# Altium schematic symbol library Bitcoiner_EB_Project_V1I1.SchLib: 70 symbols (part 2 of 3)
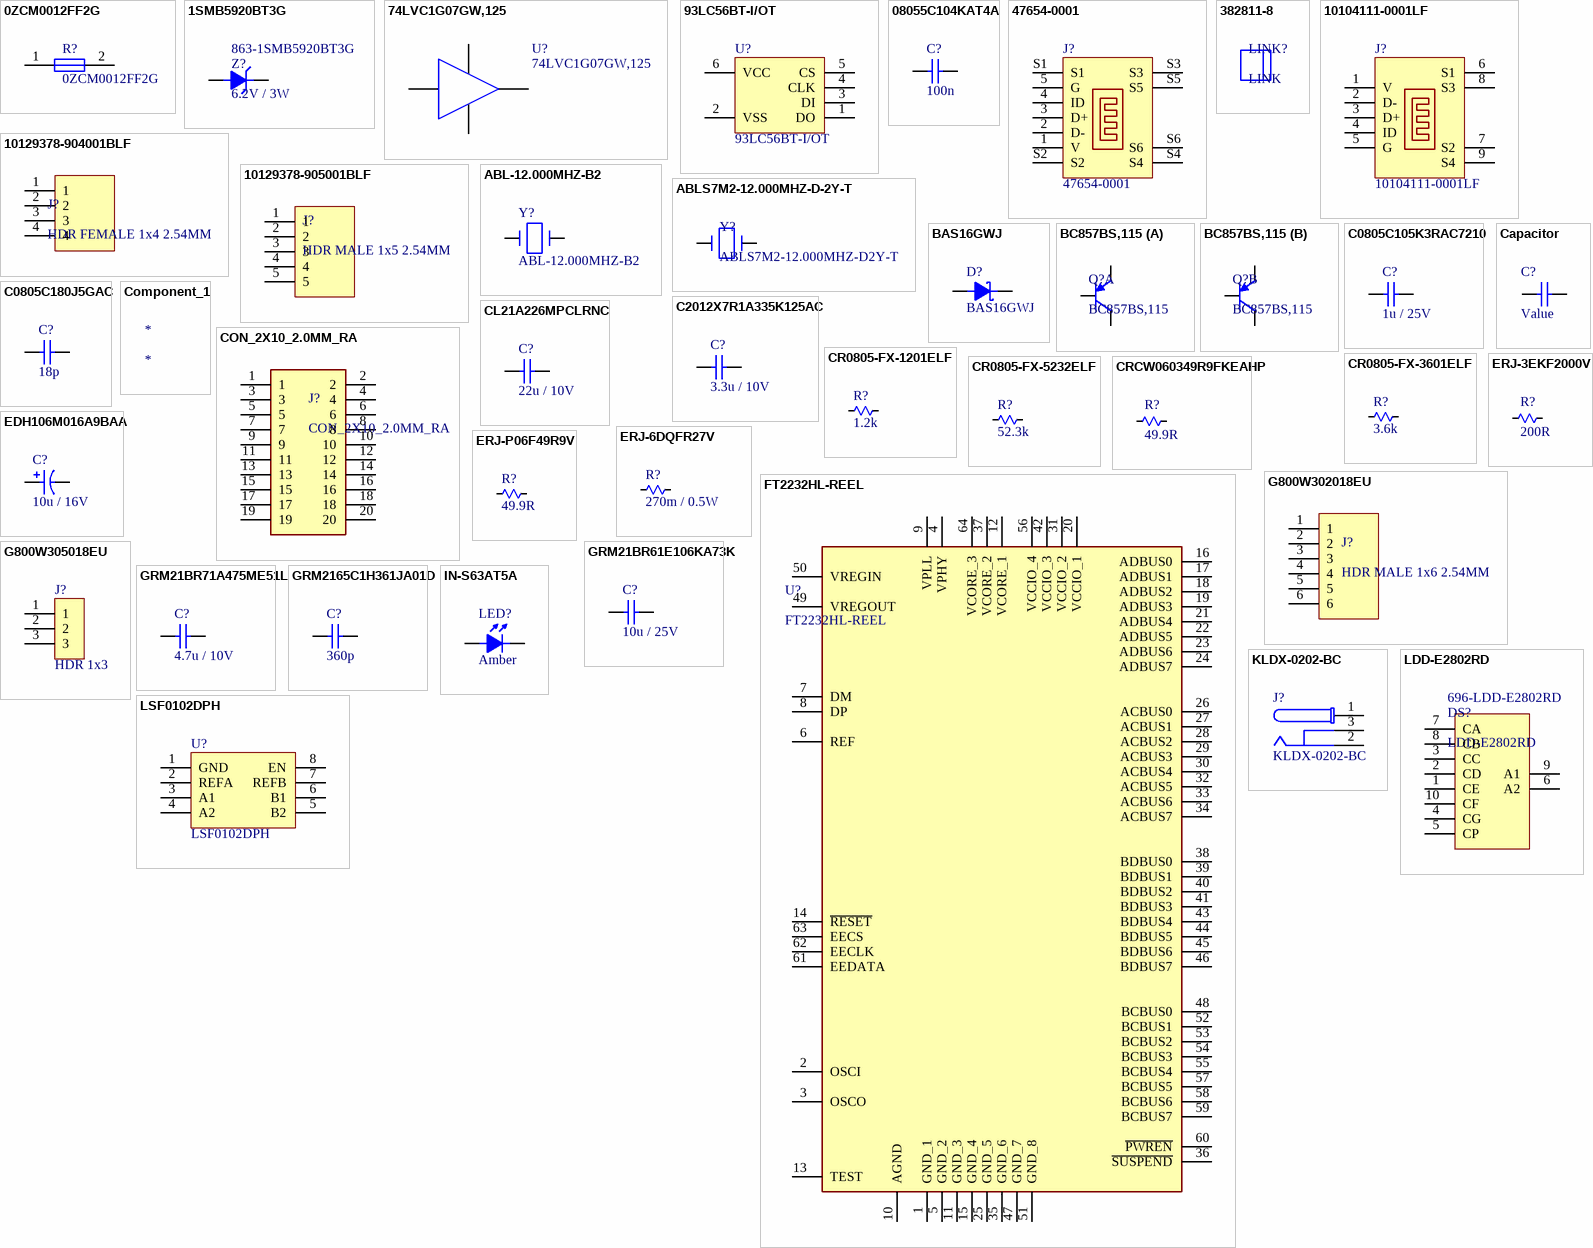
[diagram p2: symbols 0ZCM0012FF2G to LSF0102DPH]

## LDD-E2802RD
designator DS?  Supplier Part Number 1: 696-LDD-E2802RD
Dual Digit 565 nm Green 0.28 inch Common Anode Seven Segment Display; Manufacturer: Lumex; Wavelength: 565nm; Forward Current: 10mA; Forward Voltage: 2.2V; Power Consumption: 105mW; Number of LEDs: 16; Viewing Area (height): 7mm; Supplier 1: Mouser; Manufacturer Part Number: LDD-E2802RD; RoHS: Yes; Category: Uncategorized; Stock 1: 124; Pricing 1: 1=1.27000, 10=0.80000, 50=0.80000, 100=0.64000, 1000=0.44700, 10000=0.40000 (USD); Mount: Through Hole; Number of Pins: 10; Color: Green; Min Operating Temperature: -30°C; Max Operating Temperature: 85°C; Element Configuration: Common Anode; Illumination Color: Green; Packaging: Rail/Tube; Display Type: Segment; Lead Free: Lead Free; RoHS Compliant: No; ComponentLink1URL: https://datasheet.ciiva.com/12093/ldd-e2802rd-106744-12093301.pdf?src-supplier=Mouser; ComponentLink1Description: https://datasheet.ciiva.com/12093/ldd-e2802rd-106744-12093301.pdf?src-supplier=Mouser
footprint LDD-E2802RD
pins: 1 CE, 2 CD, 3 CC, 4 CG, 5 CP, 6 A2, 7 CA, 8 CB, 9 A1, 10 CF

## LSF0102DPH
designator U?
Manufacturer: Nexperia; Supplier 1: Mouser; Manufacturer Part Number: LSF0102DPH; RoHS: No; Stock 1: 2386; Pricing 1: 1=0.58000, 10=0.48100, 50=0.48100, 100=0.36500, 1000=0.24800, 10000=0.20100 (USD); Supplier Part Number 1: 771-LSF0102DPH
footprint SOT505-2
pins: 1 GND, 2 REFA, 3 A1, 4 A2, 5 B2, 6 B1, 7 REFB, 8 EN

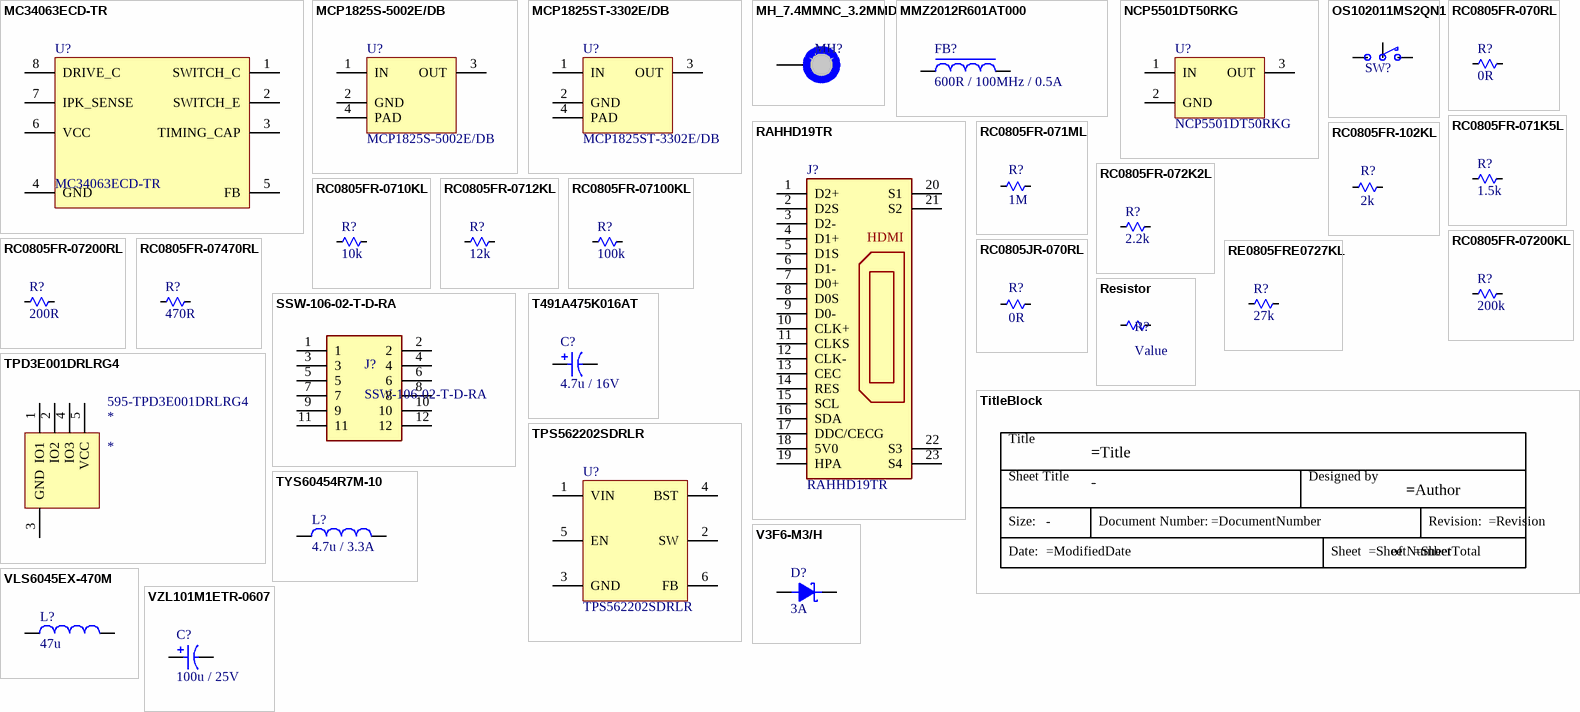
[diagram p1: symbols MC34063ECD-TR to VZL101M1ETR-0607]

## MC34063ECD-TR
designator U?
DC DC Cntrlr Single-OUT Step Up/Step Down 3V to 40V Input 8-Pin SO N T/R; Manufacturer: STMicroelectronics; Number of Outputs: 1; Output Voltage: 1.25V; Output Current: 1.5A; Efficiency: 89%; Max Output Voltage: 38V; Switching Frequency: 100kHz; Synchronous Rectifier: No; Output Type: Adjustable,Fixed; Supplier 1: Mouser; Manufacturer Part Number: MC34063ECD-TR; RoHS: Yes; Category: Voltage Regulators - Switching; Stock 1: 170; Pricing 1: 1=0.64000, 10=0.52900, 50=0.52900, 100=0.43200, 1000=0.27400, 10000=0.24700 (USD); Mount: Surface Mount; Case/Package: SO; Number of Pins: 8; Min Operating Temperature: 0°C; Max Operating Temperature: 70°C; Package Quantity: 2500; Packaging: Tape and Reel; Max Input Voltage: 40V; Min Input Voltage: 3V; Max Output Current: 1.5A; Min Output Voltage: 1.25V; Series: MC34063EC; Switching Frequency-Max: 100kHz; Radiation Hardening: No; REACH SVHC: No SVHC; Lead Free: Lead Free; RoHS Compliant: No; ComponentLink1URL: https://datasheet.ciiva.com/15113/getdatasheetpartid-144320-15113156.pdf?src-supplier=Verical; ComponentLink1Description: https://datasheet.ciiva.com/15113/getdatasheetpartid-144320-15113156.pdf?src-supplier=Verical; ComponentLink2URL: https://datasheet.ciiva.com/2028/cd00001232-2028096.pdf?src-supplier=Digi-Key; ComponentLink2Description: https://datasheet.ciiva.com/2028/cd00001232-2028096.pdf?src-supplier=Digi-Key; ComponentLink3URL: https://datasheet.ciiva.com/2028/cd00001232-2028097.pdf?src-supplier=Digi-Key; ComponentLink3Description: https://datasheet.ciiva.com/2028/cd00001232-2028097.pdf?src-supplier=Digi-Key; ComponentLink4URL: https://datasheet.ciiva.com/16353/cd00001232-16353197.pdf?src-supplier=Future+Electronics; ComponentLink4Description: https://datasheet.ciiva.com/16353/cd00001232-16353197.pdf?src-supplier=Future+Electronics; ComponentLink5URL: https://datasheet.ciiva.com/2028/cd00001232-2028095.pdf?src-supplier=Digi-Key; ComponentLink5Description: https://datasheet.ciiva.com/2028/cd00001232-2028095.pdf?src-supplier=Digi-Key; ComponentLink6URL: https://datasheet.ciiva.com/17297/cd00001232-17297039.pdf?src-supplier=Avnet+Europe; ComponentLink6Description: https://datasheet.ciiva.com/17297/cd00001232-17297039.pdf?src-supplier=Avnet+Europe; Supplier Part Number 1: 511-MC34063ECD-TR
footprint SOIC8
pins: 1 SWITCH_C, 2 SWITCH_E, 3 TIMING_CAP, 4 GND, 5 FB, 6 VCC, 7 IPK_SENSE, 8 DRIVE_C

## MCP1825S-5002E/DB
designator U?
MICROCHIP   MCP1825S-5002E/DB   Fixed LDO Voltage Regulator, 2.1V to 6V, 210mV Dropout, 5Vout, 500mAout, SOT-223-3; Output Current: 500mA; Number of Outputs: 1; Output Voltage: 5V; Input Bias Current: 120uA; Quiescent Current: 220uA; Polarity: Positive; Accuracy: 2.5%; Output Voltage Accuracy: 0.5%; Supplier 1: Mouser; Manufacturer: Microchip; Manufacturer Part Number: MCP1825S-5002E/DB; RoHS: Yes; Category: Voltage Regulators - Linear; Stock 1: 2322; Pricing 1: 1=0.54000, 10=0.54000, 50=0.45000, 100=0.41000, 1000=0.41000, 10000=0.41000 (USD); Mount: Surface Mount; Case/Package: SOT-223; Number of Pins: 3; Min Operating Temperature: -40°C; Max Operating Temperature: 125°C; Dropout Voltage: 210mV; Package Quantity: 78; Max Input Voltage: 6V; Min Input Voltage: 2.1V; Packaging: Rail/Tube; Max Output Current: 500mA; Min Output Voltage: 5V; Output Type: Fixed; Nominal Output Voltage: 5V; Length: 0.263inch; Width: 0.146inch; Height: 0.067inch; Radiation Hardening: No; REACH SVHC: No SVHC; Lead Free: Lead Free; RoHS Compliant: Yes; ComponentLink1URL: https://datasheet.ciiva.com/41458/001085970-da-01-en-ic-reg-l-mcp1825s-5002e-db-sot-223-3-mcp-41458813.pdf?src-supplier=Conrad; ComponentLink1Description: https://datasheet.ciiva.com/41458/001085970-da-01-en-ic-reg-l-mcp1825s-5002e-db-sot-223-3-mcp-41458813.pdf?src-supplier=Conrad; ComponentLink2URL: https://datasheet.ciiva.com/2051/22056b-2051733.pdf?src-supplier=Digi-Key; ComponentLink2Description: https://datasheet.ciiva.com/2051/22056b-2051733.pdf?src-supplier=Digi-Key; ComponentLink3URL: https://datasheet.ciiva.com/15200/getdatasheetpartid-567689-15200326.pdf?src-supplier=Verical; ComponentLink3Description: https://datasheet.ciiva.com/15200/getdatasheetpartid-567689-15200326.pdf?src-supplier=Verical; ComponentLink4URL: https://datasheet.ciiva.com/16298/filehandler-aspxddocname-en531698-16298391.pdf?src-supplier=Future+Electronics; ComponentLink4Description: https://datasheet.ciiva.com/16298/filehandler-aspxddocname-en531698-16298391.pdf?src-supplier=Future+Electronics; ComponentLink5URL: https://datasheet.ciiva.com/8239/22056b-8239274.pdf?src-supplier=Avnet; ComponentLink5Description: https://datasheet.ciiva.com/8239/22056b-8239274.pdf?src-supplier=Avnet; ComponentLink6URL: https://datasheet.ciiva.com/8041/514217-8041503.pdf?src-supplier=Element14; ComponentLink6Description: https://datasheet.ciiva.com/8041/514217-8041503.pdf?src-supplier=Element14; Supplier Part Number 1: 579-MCP1825S-5002EDB
footprint SOT-223-3
pins: 1 IN, 2 GND, 3 OUT, 4 PAD

## MCP1825ST-3302E/DB
designator U?
IC REG LIN 3.3V 500MA SOT223-3; Manufacturer: Microchip; Number of Outputs: 1; Min Input Voltage: 2.1V; Dropout Voltage: 210mV; Max Input Voltage: 6V; Input Bias Current: 120uA; Polarity: Positive; Quiescent Current: 220uA; Output Voltage Accuracy: 0.5%; Output Type: Fixed; Supplier 1: Mouser; Manufacturer Part Number: MCP1825ST-3302E/DB; RoHS: Yes; Category: Voltage Regulators - Linear; Stock 1: 7744; Pricing 1: 1=0.57000, 10=0.56700, 50=0.47300, 100=0.43100, 1000=0.43100, 10000=0.43000 (USD); Mount: Surface Mount; Case/Package: SOT-223; Number of Pins: 3; Min Operating Temperature: -40°C; Max Operating Temperature: 125°C; Output Voltage: 3.3V; Packaging: Tape and Reel; Package Quantity: 4000; Output Current: 500mA; Number of Regulators: 1; Series: -; Radiation Hardening: No; RoHS Compliant: Yes; ComponentLink1URL: https://datasheet.ciiva.com/8238/22056b-8238778.pdf?src-supplier=Avnet; ComponentLink1Description: https://datasheet.ciiva.com/8238/22056b-8238778.pdf?src-supplier=Avnet; ComponentLink2URL: https://datasheet.ciiva.com/2056/22056b-2056427.pdf?src-supplier=Digi-Key; ComponentLink2Description: https://datasheet.ciiva.com/2056/22056b-2056427.pdf?src-supplier=Digi-Key; Supplier Part Number 1: 579-MCP1825ST3302EDB
footprint SOT-223-3
pins: 1 IN, 2 GND, 3 OUT, 4 PAD

## MH_7.4MMNC_3.2MMD
designator MH?  (value not drawn)  (no BOM)
Mounting Hole 7.4mm Diameter (Non Copper), 3.2 Drill NPTH
footprint MH_7.4MMD_3.2MMD_NON_COPPER_NPTH
pins: 1

## MMZ2012R601AT000
designator FB?, comment 600R / 100MHz / 0.5A
TDK         MMZ2012R601AT000            FERRITE BEAD, 0.2OHM, 500MA, 0805; Tolerance: 25%; DC Resistance (DCR): 200mR; Supplier 1: Mouser; Manufacturer: TDK; Manufacturer Part Number: MMZ2012R601AT000; RoHS: Yes; Category: Inductors; Stock 1: 23788; Pricing 1: 1=0.10000, 10=0.05100, 50=0.05100, 100=0.03600, 1000=0.02600, 10000=0.02000 (USD); Mount: Surface Mount; Case/Package: 0805; Number of Pins: 2; Core Material: Ferrite; Case Code (Metric): 2012; Case Code (Imperial): 0805; Impedance: 600R; Packaging: Cut Tape; Package Quantity: 1; Current Rating: 500mA; Max DC Current: 500mA; Series: MMZ; Length: 0.079inch; Width: 0.049inch; Height: 0.041inch; Depth: 1.25mm; RoHS Compliant: Yes; REACH SVHC: No SVHC; ComponentLink1URL: https://datasheet.ciiva.com/8077/55163-8077040.pdf?src-supplier=Element14; ComponentLink1Description: https://datasheet.ciiva.com/8077/55163-8077040.pdf?src-supplier=Element14; ComponentLink2URL: https://datasheet.ciiva.com/46634/beads-commercial-signal-mmz-en-46634123.pdf?src-supplier=Digi-Key; ComponentLink2Description: https://datasheet.ciiva.com/46634/beads-commercial-signal-mmz-en-46634123.pdf?src-supplier=Digi-Key; ComponentLink3URL: https://datasheet.ciiva.com/46634/beads-commercial-signal-mmz-en-46634155.pdf?src-supplier=Digi-Key; ComponentLink3Description: https://datasheet.ciiva.com/46634/beads-commercial-signal-mmz-en-46634155.pdf?src-supplier=Digi-Key; ComponentLink4URL: https://datasheet.ciiva.com/46381/712877-46381661.pdf?src-supplier=Element14; ComponentLink4Description: https://datasheet.ciiva.com/46381/712877-46381661.pdf?src-supplier=Element14; ComponentLink5URL: https://datasheet.ciiva.com/46634/beads-commercial-signal-mmz-en-46634125.pdf?src-supplier=Digi-Key; ComponentLink5Description: https://datasheet.ciiva.com/46634/beads-commercial-signal-mmz-en-46634125.pdf?src-supplier=Digi-Key; ComponentLink6URL: https://datasheet.ciiva.com/8077/55163-8077039.pdf?src-supplier=Element14; ComponentLink6Description: https://datasheet.ciiva.com/8077/55163-8077039.pdf?src-supplier=Element14; Supplier Part Number 1: 810-MMZ2012R601AT000
footprint R0805
pins: 1, 2

## NCP5501DT50RKG
designator U?
IC REG LINEAR 5V 500MA DPAK; Manufacturer: ON Semiconductor; Dropout Voltage: 230mV; Max Input Voltage: 16V; Min Input Voltage: 2.5V; Number of Outputs: 1; Polarity: Positive; Accuracy: 2.9%; Output Type: Fixed; Supplier 1: Mouser; Manufacturer Part Number: NCP5501DT50RKG; RoHS: Yes; Category: Voltage Regulators - Linear; Stock 1: 2372; Pricing 1: 1=0.68000, 10=0.57100, 50=0.57100, 100=0.45300, 1000=0.28700, 10000=0.25300 (USD); Mount: Surface Mount; Case/Package: DPAK; Number of Pins: 3; Contact Plating: Tin,Matte; Min Operating Temperature: -40°C; Max Operating Temperature: 85°C; Output Current: 500mA; Nominal Output Voltage: 5V; Packaging: Tape and Reel; Package Quantity: 1; Output Voltage: 5V; Max Output Current: 500mA; Number of Regulators: 1; Min Current Limit: 500mA; Min Output Voltage: 5V; Output Voltage Accuracy: 2.9%; Series: -; Radiation Hardening: No; REACH SVHC: No SVHC; Lead Free: Lead Free; Halogen Free: Halogen Free; RoHS Compliant: Yes; ComponentLink1URL: https://datasheet.ciiva.com/8230/ncp5500-d-8230517.pdf?src-supplier=Avnet; ComponentLink1Description: https://datasheet.ciiva.com/8230/ncp5500-d-8230517.pdf?src-supplier=Avnet; ComponentLink2URL: https://datasheet.ciiva.com/16212/ncp5500-d-16212469.pdf?src-supplier=Future+Electronics; ComponentLink2Description: https://datasheet.ciiva.com/16212/ncp5500-d-16212469.pdf?src-supplier=Future+Electronics; ComponentLink3URL: https://datasheet.ciiva.com/6591/ncp5500-d-6591135.pdf?src-supplier=Digi-Key; ComponentLink3Description: https://datasheet.ciiva.com/6591/ncp5500-d-6591135.pdf?src-supplier=Digi-Key; ComponentLink4URL: https://datasheet.ciiva.com/8230/ncp5500-d-8230437.pdf?src-supplier=Avnet; ComponentLink4Description: https://datasheet.ciiva.com/8230/ncp5500-d-8230437.pdf?src-supplier=Avnet; ComponentLink5URL: https://datasheet.ciiva.com/2060/ncp5500-d-2060476.pdf?src-supplier=Digi-Key; ComponentLink5Description: https://datasheet.ciiva.com/2060/ncp5500-d-2060476.pdf?src-supplier=Digi-Key; ComponentLink6URL: https://datasheet.ciiva.com/2060/ncp5500-d-2060477.pdf?src-supplier=Digi-Key; ComponentLink6Description: https://datasheet.ciiva.com/2060/ncp5500-d-2060477.pdf?src-supplier=Digi-Key; ComponentLink7URL: https://datasheet.ciiva.com/26178/ncp5500-d-26178175.pdf?src-supplier=Avnet+Europe; ComponentLink7Description: https://datasheet.ciiva.com/26178/ncp5500-d-26178175.pdf?src-supplier=Avnet+Europe; Supplier Part Number 1: 863-NCP5501DT50RKG
footprint DPAK_369C
pins: 1 IN, 2 GND, 3 OUT

## OS102011MS2QN1
designator SW?
Slide; Manufacturer: ITT C&K; Manufacturer Part Number: OS102011MS2QN1; Mechanical Life: 10000Cycles; Actuator Material: Polyoxymethylene,Acetal,Polyacetal; Actuator Color: Black; Throw Configuration: SPDT; Max Voltage Rating (DC): 12V; Max Current Rating: 100mA; Contact Resistance: 20mR; Contact Style: Non-Shorting; Insulation Resistance: 100MR; Switch Travel: 2mm; Switch Function: On-On; Actuator Type: Standard; Actuator Length: 4mm; Supplier 1: Mouser; RoHS: Yes; Category: Slide Switches; Stock 1: 6258; Pricing 1: 1=0.39000, 10=0.39000, 50=0.34400, 100=0.32100, 1000=0.26400, 10000=0.24300 (USD); Mount: Through Hole,PCB; Contact Material: Copper Alloy,Brass,Silver; Contact Plating: Silver,Gold; Housing Material: Resin; Min Operating Temperature: -30°C; Max Operating Temperature: 70°C; Termination: PC Pins; Packaging: Bulk; Electrical Life: 10000Cycles; Orientation: Vertical; Voltage Rating (DC): 12V; Package Quantity: 300; Contact Current Rating: 100mA; Current Rating: 100mA; Series: OS; Length: 8.6mm; Depth: 4.3mm; Radiation Hardening: No; REACH SVHC: No SVHC; RoHS Compliant: Yes; Lead Free: Lead Free; ComponentLink1URL: https://datasheet.ciiva.com/16298/os102011ms2qn1-16298526.pdf?src-supplier=Future+Electronics; ComponentLink1Description: https://datasheet.ciiva.com/16298/os102011ms2qn1-16298526.pdf?src-supplier=Future+Electronics; ComponentLink2URL: https://datasheet.ciiva.com/30466/0900766b81263f61-30466806.pdf?src-supplier=RSComponents; ComponentLink2Description: https://datasheet.ciiva.com/30466/0900766b81263f61-30466806.pdf?src-supplier=RSComponents; ComponentLink3URL: https://datasheet.ciiva.com/1532/1683358-1532308.pdf?src-supplier=Element14; ComponentLink3Description: https://datasheet.ciiva.com/1532/1683358-1532308.pdf?src-supplier=Element14; ComponentLink4URL: https://datasheet.ciiva.com/2889/os-19jan15-2889173.pdf?src-supplier=Digi-Key; ComponentLink4Description: https://datasheet.ciiva.com/2889/os-19jan15-2889173.pdf?src-supplier=Digi-Key; ComponentLink5URL: https://datasheet.ciiva.com/1699/os-19jan15-1699479.pdf?src-supplier=Newark; ComponentLink5Description: https://datasheet.ciiva.com/1699/os-19jan15-1699479.pdf?src-supplier=Newark; ComponentLink6URL: https://datasheet.ciiva.com/18147/getdatasheetpartid-320490-18147210.pdf?src-supplier=Verical; ComponentLink6Description: https://datasheet.ciiva.com/18147/getdatasheetpartid-320490-18147210.pdf?src-supplier=Verical; ComponentLink7URL: https://datasheet.ciiva.com/16997/70128245-16997771.pdf?src-supplier=Allied+Electronics; ComponentLink7Description: https://datasheet.ciiva.com/16997/70128245-16997771.pdf?src-supplier=Allied+Electronics; ComponentLink8URL: https://datasheet.ciiva.com/26290/os-11mar13-26290652.pdf?src-supplier=Onlinecomponents.com; ComponentLink8Description: https://datasheet.ciiva.com/26290/os-11mar13-26290652.pdf?src-supplier=Onlinecomponents.com; Supplier Part Number 1: 611-OS102011MS2QN1
footprint OS102011MS2QN1
pins: 1, 2, 3

## RAHHD19TR
designator J?
HDMI Connector; Manufacturer_Name: Switchcraft; Manufacturer: Switchcraft Conxall; Datasheet Link: https://www.switchcraft.com/Drawings/RAHHD19TR_CD.pdf; Height: 6.68mm; Manufacturer_Part_Number: RAHHD19TR; Supplier 1: Mouser; Manufacturer Part Number: RAHHD19TR; RoHS: No; Stock 1: 605; Pricing 1: 1=0.77000, 10=0.62400, 50=0.62400, 100=0.59200, 1000=0.49200, 10000=0.46800 (USD); Supplier Part Number 1: 502-RAHHD19TR
footprint RAHHD19TR
pins: 1 D2+, 2 D2S, 3 D2-, 4 D1+, 5 D1S, 6 D1-, 7 D0+, 8 D0S, 9 D0-, 10 CLK+, 11 CLKS, 12 CLK-, 13 CEC, 14 RES, 15 SCL, 16 SDA, 17 DDC/CECG, 18 5V0, 19 HPA, 20 S1, 21 S2, 22 S3, 23 S4
text: HDMI

## RC0805FR-070RL
designator R?, comment 0R
Res Thick Film 0805 0 Ohm Epoxy Pad SMD T/R; Manufacturer: Yageo; Manufacturer Part Number: RC0805FR-070RL; Resistance: 0mR; Tolerance: 1%; Power Rating: 125mW; Supplier 1: Mouser; RoHS: Yes; Category: Chip SMD Resistors; Stock 1: 32082; Pricing 1: 1=0.10000, 10=0.03400, 50=0.03400, 100=0.01300, 1000=0.00700, 10000=0.00400 (USD); Case/Package: 0805; Contact Plating: Tin,Matte; Case Code (Imperial): 0805; Case Code (Metric): 2012; Size Code: 0805; Min Operating Temperature: -55°C; Max Operating Temperature: 155°C; Resistor Type: Thick Film; Packaging: Tape and Reel; Features: Moisture Resistant; Series: RC; Max Power Dissipation: 125mW; Number of Terminations: 2; Construction: Rectangular; Length: 2mm; Depth: 1.25mm; Radiation Hardening: No; Military Standard: Not; Lead Free: Lead Free; RoHS Compliant: Yes; ComponentLink1URL: https://datasheet.ciiva.com/17042/rc0805-17042698.pdf?src-supplier=Future+Electronics; ComponentLink1Description: https://datasheet.ciiva.com/17042/rc0805-17042698.pdf?src-supplier=Future+Electronics; ComponentLink2URL: https://datasheet.ciiva.com/15189/getdatasheetpartid-348154-15189885.pdf?src-supplier=Verical; ComponentLink2Description: https://datasheet.ciiva.com/15189/getdatasheetpartid-348154-15189885.pdf?src-supplier=Verical; Supplier Part Number 1: 603-RC0805FR-070RL
footprint R0805
pins: 1, 2

## RC0805FR-071K5L
designator R?, comment 1.5k
Res Thick Film 0805 1.5K Ohm 1% 0.125W(1/8W) ±100ppm/C Molded SMD Paper T/R; Manufacturer: Yageo; Manufacturer Part Number: RC0805FR-071K5L; Resistance: 1.5kR; Temperature Coefficient: 100ppm/°C; Power Rating: 125mW; Voltage Rating: 150V; Supplier 1: Mouser; RoHS: Yes; Category: Chip SMD Resistors; Stock 1: 4290; Pricing 1: 1=0.13000, 10=0.03100, 50=0.03100, 100=0.01100, 1000=0.00800, 10000=0.00500 (USD); Case/Package: 0805; Case Code (Imperial): 0805; Case Code (Metric): 2012; Size Code: 0805; Min Operating Temperature: -55°C; Max Operating Temperature: 155°C; Tolerance: 1%; Packaging: Tape and Reel; Resistor Type: Thick Film; Package Quantity: 5000; Termination: SMD/SMT; Features: Moisture Resistant; Series: RC; Max Power Dissipation: 125mW; Number of Terminations: 2; Resistance Tolerance: 1%; Length: 2mm; Width: 1.25mm; Height: 0.5mm; Depth: 1.25mm; REACH SVHC: Unknown; Lead Free: Lead Free; RoHS Compliant: Yes; ComponentLink1URL: https://datasheet.ciiva.com/17423/rc0805-17423247.pdf?src-supplier=Future+Electronics; ComponentLink1Description: https://datasheet.ciiva.com/17423/rc0805-17423247.pdf?src-supplier=Future+Electronics; Supplier Part Number 1: 603-RC0805FR-071K5L
footprint R0805
pins: 1, 2

## RC0805FR-071ML
designator R?, comment 1M
Res Thick Film 0805 1M Ohm 1% 0.125W(1/8W) ±100ppm/C Epoxy SMD T/R; Manufacturer: Yageo Phycomp; Manufacturer Part Number: RC0805FR-071ML; Temperature Coefficient: 100ppm/°C; Resistance: 1MR; Power Rating: 125mW; Voltage Rating (DC): 150V; Supplier 1: Mouser; RoHS: Yes; Category: Chip SMD Resistors; Stock 1: 51730; Pricing 1: 1=0.10000, 10=0.04000, 50=0.04000, 100=0.01600, 1000=0.00700, 10000=0.00400 (USD); Mount: Surface Mount; Case/Package: 0805; Number of Pins: 2; Min Operating Temperature: -55°C; Max Operating Temperature: 155°C; Tolerance: 1%; Packaging: Cut Tape; Length: 2mm; Width: 1.25mm; Height: 0.5mm; Depth: 1.25mm; REACH SVHC: No SVHC; Lead Free: Lead Free; Supplier Part Number 1: 603-RC0805FR-071ML
footprint R0805
pins: 1, 2

## RC0805FR-072K2L
designator R?, comment 2.2k
RESISTOR, THICK FILM, 2.2KOHM, 125mW, 1%, FULL REEL; Manufacturer: Yageo; Manufacturer Part Number: RC0805FR-072K2L; Resistance: 2.2kR; Temperature Coefficient: 100ppm/°C; Voltage Rating (DC): 150V; Supplier 1: Mouser; RoHS: Yes; Category: Chip SMD Resistors; Stock 1: 637432; Pricing 1: 1=0.10000, 10=0.03100, 50=0.03100, 100=0.01200, 1000=0.00700, 10000=0.00400 (USD); Case/Package: 0805; Number of Pins: 2; Case Code (Imperial): 0805; Case Code (Metric): 2012; Size Code: 0805; Min Operating Temperature: -55°C; Max Operating Temperature: 155°C; Resistor Type: Thick Film; Tolerance: 1%; Packaging: Tape and Reel; Power Rating: 125mW; Voltage Rating: 150V; Package Quantity: 1; Termination: SMD/SMT; Number of Terminations: 2; Max Power Dissipation: 125mW; Features: Moisture Resistant; Series: RC; Construction: Rectangular; Technology: THICK FILM; Resistance Tolerance: 1%; Length: 2mm; Width: 1.25mm; Height: 0.5mm; Depth: 1.25mm; Lead Pitch: 0.4mm; REACH SVHC: No SVHC; Lead Free: Lead Free; RoHS Compliant: Yes; Military Standard: Not; ComponentLink1URL: https://datasheet.ciiva.com/7660/38627-7660800.pdf?src-supplier=Element14; ComponentLink1Description: https://datasheet.ciiva.com/7660/38627-7660800.pdf?src-supplier=Element14; ComponentLink2URL: https://datasheet.ciiva.com/11808/0900766b8106beab-11808373.pdf?src-supplier=RSComponents; ComponentLink2Description: https://datasheet.ciiva.com/11808/0900766b8106beab-11808373.pdf?src-supplier=RSComponents; ComponentLink3URL: https://datasheet.ciiva.com/46447/444164-46447575.pdf?src-supplier=Element14; ComponentLink3Description: https://datasheet.ciiva.com/46447/444164-46447575.pdf?src-supplier=Element14; ComponentLink4URL: https://datasheet.ciiva.com/2457/pyu-r-int-thick-7-2457002.pdf?src-supplier=Digi-Key; ComponentLink4Description: https://datasheet.ciiva.com/2457/pyu-r-int-thick-7-2457002.pdf?src-supplier=Digi-Key; ComponentLink5URL: https://datasheet.ciiva.com/7941/444164-7941754.pdf?src-supplier=Element14; ComponentLink5Description: https://datasheet.ciiva.com/7941/444164-7941754.pdf?src-supplier=Element14; ComponentLink6URL: https://datasheet.ciiva.com/2457/pyu-r-int-thick-7-2457003.pdf?src-supplier=Digi-Key; ComponentLink6Description: https://datasheet.ciiva.com/2457/pyu-r-int-thick-7-2457003.pdf?src-supplier=Digi-Key; ComponentLink7URL: https://datasheet.ciiva.com/7941/444164-7941755.pdf?src-supplier=Element14; ComponentLink7Description: https://datasheet.ciiva.com/7941/444164-7941755.pdf?src-supplier=Element14; ComponentLink8URL: https://datasheet.ciiva.com/2457/pyu-r-int-thick-7-2457004.pdf?src-supplier=Digi-Key; ComponentLink8Description: https://datasheet.ciiva.com/2457/pyu-r-int-thick-7-2457004.pdf?src-supplier=Digi-Key; ComponentLink9URL: https://datasheet.ciiva.com/46412/444164-46412862.pdf?src-supplier=Element14; ComponentLink9Description: https://datasheet.ciiva.com/46412/444164-46412862.pdf?src-supplier=Element14; Supplier Part Number 1: 603-RC0805FR-072K2L
footprint R0805
pins: 1, 2

## RC0805FR-102KL
designator R?, comment 2k
Res Thick Film 0805 2K Ohm 1% 1/8W 100ppm/C Molded SMD SMD Paper T/R; Manufacturer: Yageo; Manufacturer Part Number: RC0805FR-102KL; Resistance: 2kR; Temperature Coefficient: 100ppm/°C; Supplier 1: Mouser; RoHS: Yes; Category: Chip SMD Resistors; Stock 1: 19844; Pricing 1: 1=0.13000, 10=0.03100, 50=0.03100, 100=0.01100, 1000=0.00800, 10000=0.00500 (USD); Case/Package: 0805; Contact Plating: Tin,Matte; Min Operating Temperature: -55°C; Max Operating Temperature: 155°C; Tolerance: 1%; Resistor Type: Thick Film; Packaging: Tape and Reel; Construction: Rectangular; Length: 2mm; Depth: 1.25mm; Radiation Hardening: No; Military Standard: Not; RoHS Compliant: Yes; ComponentLink1URL: http://components.arrow.com/part/dataview/0323_06931434?src-supplier=Arrow+Europe; ComponentLink1Description: http://components.arrow.com/part/dataview/0323_06931434?src-supplier=Arrow+Europe; ComponentLink2URL: http://www.yageo.com/documents/recent/PYu-RC_Group_51_RoHS_L_2.pdf?src-supplier=Avnet; ComponentLink2Description: http://www.yageo.com/documents/recent/PYu-RC_Group_51_RoHS_L_2.pdf?src-supplier=Avnet; ComponentLink3URL: http://www.yageo.com/documents/recent/PYu-RC0805_51_RoHS_L_5.pdf?src-supplier=Avnet+Europe; ComponentLink3Description: http://www.yageo.com/documents/recent/PYu-RC0805_51_RoHS_L_5.pdf?src-supplier=Avnet+Europe; Supplier Part Number 1: 603-RC0805FR-102KL
footprint R0805
pins: 1, 2

## RC0805FR-0710KL
designator R?, comment 10k
RES SMD 10K OHM 1% 1/8W 0805; Manufacturer: Yageo; Manufacturer Part Number: RC0805FR-0710KL; Resistance: 10kR; Temperature Coefficient: 100ppm/°C; Power Rating: 125mW; Voltage Rating: 150V; Supplier 1: Mouser; RoHS: Yes; Category: Chip SMD Resistors; Stock 1: 2657423; Pricing 1: 1=0.10000, 10=0.03100, 50=0.03100, 100=0.01200, 1000=0.00700, 10000=0.00400 (USD); Case/Package: 0805; Case Code (Imperial): 0805; Case Code (Metric): 2012; Size Code: 0805; Min Operating Temperature: -55°C; Max Operating Temperature: 155°C; Tolerance: 1%; Resistor Type: Thick Film; Packaging: Tape and Reel; Package Quantity: 1; Termination: SMD/SMT; Number of Terminations: 2; Max Power Dissipation: 125mW; Features: Moisture Resistant; Series: RC; Construction: Rectangular; Resistance Tolerance: 1%; Technology: THICK FILM; Length: 2mm; Width: 0.049inch; Height: 0.024inch; Depth: 1.25mm; REACH SVHC: Unknown; Lead Free: Lead Free; Military Standard: Not; RoHS Compliant: Yes; Supplier Part Number 1: 603-RC0805FR-0710KL
footprint R0805
pins: 1, 2

## RC0805FR-0712KL
designator R?, comment 12k
Res Thick Film 0805 12K Ohm 1% 0.125W(1/8W) ±100ppm/C Molded SMD Paper T/R; Manufacturer: Yageo; Manufacturer Part Number: RC0805FR-0712KL; Resistance: 12kR; Temperature Coefficient: 100ppm/°C; Power Rating: 125mW; Voltage Rating: 150V; Supplier 1: Mouser; RoHS: Yes; Category: Chip SMD Resistors; Stock 1: 94553; Pricing 1: 1=0.13000, 10=0.03100, 50=0.03100, 100=0.01100, 1000=0.00800, 10000=0.00500 (USD); Case/Package: 0805; Case Code (Imperial): 0805; Case Code (Metric): 2012; Weight: 0.000194oz; Size Code: 0805; Min Operating Temperature: -55°C; Max Operating Temperature: 155°C; Tolerance: 1%; Packaging: Tape and Reel; Resistor Type: Thick Film; Package Quantity: 1; Termination: SMD/SMT; Number of Terminations: 2; Max Power Dissipation: 125mW; Features: Moisture Resistant; Series: RC; Resistance Tolerance: 1%; Construction: Rectangular; Length: 2mm; Width: 1.25mm; Height: 0.024inch; Depth: 1.25mm; REACH SVHC: Unknown; Lead Free: Lead Free; Military Standard: Not; RoHS Compliant: Yes; ComponentLink1URL: https://datasheet.ciiva.com/12577/rc0805-12577253.pdf?src-supplier=Mouser; ComponentLink1Description: https://datasheet.ciiva.com/12577/rc0805-12577253.pdf?src-supplier=Mouser; ComponentLink2URL: https://datasheet.ciiva.com/2519/pyu-r-int-thick-7-2519831.pdf?src-supplier=Digi-Key; ComponentLink2Description: https://datasheet.ciiva.com/2519/pyu-r-int-thick-7-2519831.pdf?src-supplier=Digi-Key; ComponentLink3URL: https://datasheet.ciiva.com/2519/pyu-r-int-thick-7-2519832.pdf?src-supplier=Digi-Key; ComponentLink3Description: https://datasheet.ciiva.com/2519/pyu-r-int-thick-7-2519832.pdf?src-supplier=Digi-Key; ComponentLink4URL: https://datasheet.ciiva.com/2519/pyu-r-int-thick-7-2519833.pdf?src-supplier=Digi-Key; ComponentLink4Description: https://datasheet.ciiva.com/2519/pyu-r-int-thick-7-2519833.pdf?src-supplier=Digi-Key; ComponentLink5URL: https://datasheet.ciiva.com/17018/rc0805-17018634.pdf?src-supplier=Future+Electronics; ComponentLink5Description: https://datasheet.ciiva.com/17018/rc0805-17018634.pdf?src-supplier=Future+Electronics; ComponentLink6URL: https://datasheet.ciiva.com/7941/444164-7941693.pdf?src-supplier=Element14; ComponentLink6Description: https://datasheet.ciiva.com/7941/444164-7941693.pdf?src-supplier=Element14; ComponentLink7URL: https://datasheet.ciiva.com/7941/444164-7941694.pdf?src-supplier=Element14; ComponentLink7Description: https://datasheet.ciiva.com/7941/444164-7941694.pdf?src-supplier=Element14; Supplier Part Number 1: 603-RC0805FR-0712KL
footprint R0805
pins: 1, 2

## RC0805FR-07100KL
designator R?, comment 100k
YAGEO         RC0805FR-07100KL            RES, THICK FILM, 100K, 1%, 0.125W, 0805, REEL; Resistance: 100kR; Temperature Coefficient: 100ppm/°C; Power Rating: 125mW; Voltage Rating (DC): 150V; Supplier 1: Mouser; Manufacturer: Yageo; Manufacturer Part Number: RC0805FR-07100KL; RoHS: Yes; Category: Chip SMD Resistors; Stock 1: 419806; Pricing 1: 1=0.13000, 10=0.03100, 50=0.03100, 100=0.01100, 1000=0.00800, 10000=0.00400 (USD); Case/Package: 0805; Number of Pins: 2; Case Code (Metric): 2012; Case Code (Imperial): 0805; Size Code: 0805; Min Operating Temperature: -55°C; Max Operating Temperature: 155°C; Resistor Type: Thick Film; Tolerance: 1%; Packaging: Tape and Reel; Voltage Rating: 150V; Package Quantity: 1; Number of Terminations: 2; Termination: SMD/SMT; Max Power Dissipation: 125mW; Features: Moisture Resistant; Series: RC; Construction: Rectangular; Resistance Tolerance: 1%; Technology: THICK FILM; Length: 2mm; Width: 0.049inch; Height: 0.024inch; Depth: 1.25mm; Lead Pitch: 0.4mm; REACH SVHC: Unknown; Lead Free: Lead Free; RoHS Compliant: Yes; Military Standard: Not; ComponentLink1URL: https://datasheet.ciiva.com/11808/0900766b8106beab-11808858.pdf?src-supplier=RSComponents; ComponentLink1Description: https://datasheet.ciiva.com/11808/0900766b8106beab-11808858.pdf?src-supplier=RSComponents; ComponentLink2URL: https://datasheet.ciiva.com/2457/pyu-r-int-thick-7-2457017.pdf?src-supplier=Digi-Key; ComponentLink2Description: https://datasheet.ciiva.com/2457/pyu-r-int-thick-7-2457017.pdf?src-supplier=Digi-Key; ComponentLink3URL: https://datasheet.ciiva.com/12667/rc0805-12667001.pdf?src-supplier=Mouser; ComponentLink3Description: https://datasheet.ciiva.com/12667/rc0805-12667001.pdf?src-supplier=Mouser; ComponentLink4URL: https://datasheet.ciiva.com/2457/pyu-r-int-thick-7-2457018.pdf?src-supplier=Digi-Key; ComponentLink4Description: https://datasheet.ciiva.com/2457/pyu-r-int-thick-7-2457018.pdf?src-supplier=Digi-Key; ComponentLink5URL: https://datasheet.ciiva.com/16747/rc0805-16747226.pdf?src-supplier=Future+Electronics; ComponentLink5Description: https://datasheet.ciiva.com/16747/rc0805-16747226.pdf?src-supplier=Future+Electronics; ComponentLink6URL: https://datasheet.ciiva.com/2457/pyu-r-int-thick-7-2457019.pdf?src-supplier=Digi-Key; ComponentLink6Description: https://datasheet.ciiva.com/2457/pyu-r-int-thick-7-2457019.pdf?src-supplier=Digi-Key; ComponentLink7URL: https://datasheet.ciiva.com/7660/38627-7660796.pdf?src-supplier=Element14; ComponentLink7Description: https://datasheet.ciiva.com/7660/38627-7660796.pdf?src-supplier=Element14; ComponentLink8URL: https://datasheet.ciiva.com/7941/1697719-7941676.pdf?src-supplier=Element14; ComponentLink8Description: https://datasheet.ciiva.com/7941/1697719-7941676.pdf?src-supplier=Element14; ComponentLink9URL: https://datasheet.ciiva.com/7941/1686128-7941677.pdf?src-supplier=Element14; ComponentLink9Description: https://datasheet.ciiva.com/7941/1686128-7941677.pdf?src-supplier=Element14; ComponentLink10URL: https://datasheet.ciiva.com/7941/1697719-7941678.pdf?src-supplier=Element14; ComponentLink10Description: https://datasheet.ciiva.com/7941/1697719-7941678.pdf?src-supplier=Element14; ComponentLink11URL: https://datasheet.ciiva.com/22747/444164-22747534.pdf?src-supplier=Element14; ComponentLink11Description: https://datasheet.ciiva.com/22747/444164-22747534.pdf?src-supplier=Element14; Supplier Part Number 1: 603-RC0805FR-07100KL
footprint R0805
pins: 1, 2

## RC0805FR-07200KL
designator R?, comment 200k
YAGEO - RC0805FR-07200KL - RES, THICK FILM, 200K, 1%, 0.125W, 0805, REEL; Resistance: 200kR; Temperature Coefficient: 100ppm/°C; Power Rating: 125mW; Voltage Rating: 150V; Supplier 1: Mouser; Manufacturer: Yageo; Manufacturer Part Number: RC0805FR-07200KL; RoHS: Yes; Category: Chip SMD Resistors; Stock 1: 217683; Pricing 1: 1=0.10000, 10=0.03100, 50=0.03100, 100=0.01200, 1000=0.00700, 10000=0.00400 (USD); Case/Package: 0805; Number of Pins: 2; Contact Plating: Tin,Matte; Case Code (Imperial): 0805; Case Code (Metric): 2012; Min Operating Temperature: -55°C; Max Operating Temperature: 155°C; Tolerance: 1%; Resistor Type: Thick Film; Packaging: Tape and Reel; Termination: SMD/SMT; Voltage Rating (DC): 150V; Working Voltage: 150V; Number of Terminations: 2; Features: Moisture Resistant; Series: RC; Max Power Dissipation: 125mW; Resistance Tolerance: 1%; Technology: THICK FILM; Construction: Rectangular; Length: 2mm; Height: 0.5mm; Depth: 1.25mm; Radiation Hardening: No; REACH SVHC: No SVHC; Military Standard: Not; Lead Free: Lead Free; RoHS Compliant: Yes; ComponentLink1URL: https://datasheet.ciiva.com/11808/0900766b8106beab-11808861.pdf?src-supplier=RSComponents; ComponentLink1Description: https://datasheet.ciiva.com/11808/0900766b8106beab-11808861.pdf?src-supplier=RSComponents; ComponentLink2URL: https://datasheet.ciiva.com/15189/getdatasheetpartid-71710-15189925.pdf?src-supplier=Verical; ComponentLink2Description: https://datasheet.ciiva.com/15189/getdatasheetpartid-71710-15189925.pdf?src-supplier=Verical; ComponentLink3URL: https://datasheet.ciiva.com/46395/444164-46395126.pdf?src-supplier=Element14; ComponentLink3Description: https://datasheet.ciiva.com/46395/444164-46395126.pdf?src-supplier=Element14; ComponentLink4URL: https://datasheet.ciiva.com/12668/rc0805-12668200.pdf?src-supplier=Mouser; ComponentLink4Description: https://datasheet.ciiva.com/12668/rc0805-12668200.pdf?src-supplier=Mouser; Supplier Part Number 1: 603-RC0805FR-07200KL
footprint R0805
pins: 1, 2

## RC0805FR-07200RL
designator R?, comment 200R
Res Thick Film 2.0 x 1.2 mm 200 Ohm 1% 0.125W(1/8W) 100ppm/ C Molded SMD Paper T/R; Manufacturer: Yageo; Manufacturer Part Number: RC0805FR-07200RL; Temperature Coefficient: 100ppm/°C; Voltage Rating (DC): 150V; Power Rating: 125mW; Supplier 1: Mouser; RoHS: Yes; Category: Chip SMD Resistors; Stock 1: 137491; Pricing 1: 1=0.10000, 10=0.03500, 50=0.03500, 100=0.01200, 1000=0.00700, 10000=0.00400 (USD); Mount: Surface Mount; Case/Package: 0805; Case Code (Metric): 2012; Case Code (Imperial): 0805; Size Code: 0805; Min Operating Temperature: -55°C; Max Operating Temperature: 155°C; Tolerance: 1%; Resistance: 200R; Packaging: Tape and Reel; Resistor Type: Thick Film; Package Quantity: 1; Voltage Rating: 150V; Number of Terminations: 2; Termination: SMD/SMT; Max Power Dissipation: 125mW; Features: Moisture Resistant; Series: RC; Construction: Rectangular; Length: 2mm; Width: 0.049inch; Height: 0.024inch; Depth: 1.25mm; Lead Free: Lead Free; Military Standard: Not; RoHS Compliant: Yes; ComponentLink1URL: https://datasheet.ciiva.com/15189/getdatasheetpartid-327982-15189926.pdf?src-supplier=Verical; ComponentLink1Description: https://datasheet.ciiva.com/15189/getdatasheetpartid-327982-15189926.pdf?src-supplier=Verical; ComponentLink2URL: https://datasheet.ciiva.com/2519/pyu-r-int-thick-7-2519720.pdf?src-supplier=Digi-Key; ComponentLink2Description: https://datasheet.ciiva.com/2519/pyu-r-int-thick-7-2519720.pdf?src-supplier=Digi-Key; ComponentLink3URL: https://datasheet.ciiva.com/2519/pyu-r-int-thick-7-2519721.pdf?src-supplier=Digi-Key; ComponentLink3Description: https://datasheet.ciiva.com/2519/pyu-r-int-thick-7-2519721.pdf?src-supplier=Digi-Key; ComponentLink4URL: https://datasheet.ciiva.com/2519/pyu-r-int-thick-7-2519722.pdf?src-supplier=Digi-Key; ComponentLink4Description: https://datasheet.ciiva.com/2519/pyu-r-int-thick-7-2519722.pdf?src-supplier=Digi-Key; ComponentLink5URL: https://datasheet.ciiva.com/12667/rc0805-12667066.pdf?src-supplier=Mouser; ComponentLink5Description: https://datasheet.ciiva.com/12667/rc0805-12667066.pdf?src-supplier=Mouser; Supplier Part Number 1: 603-RC0805FR-07200RL
footprint R0805
pins: 1, 2

## RC0805FR-07470RL
designator R?, comment 470R
Res Thick Film 0805 470 Ohm 1% 1/8W +/-100ppm/ßC Molded SMD Paper T/R; Manufacturer: Yageo; Manufacturer Part Number: RC0805FR-07470RL; Temperature Coefficient: 100ppm/°C; Voltage Rating (DC): 150V; Power Rating: 125mW; Supplier 1: Mouser; RoHS: Yes; Category: Chip SMD Resistors; Stock 1: 63482; Pricing 1: 1=0.13000, 10=0.03100, 50=0.03100, 100=0.01100, 1000=0.00800, 10000=0.00500 (USD); Case/Package: 0805; Number of Pins: 2; Case Code (Metric): 2012; Case Code (Imperial): 0805; Size Code: 0805; Min Operating Temperature: -55°C; Max Operating Temperature: 155°C; Resistance: 470R; Tolerance: 1%; Resistor Type: Thick Film; Packaging: Tape and Reel; Package Quantity: 5000; Voltage Rating: 150V; Number of Terminations: 2; Termination: SMD/SMT; Max Power Dissipation: 125mW; Features: Moisture Resistant; Series: RC; Resistance Tolerance: 1%; Construction: Rectangular; Length: 2mm; Width: 1.25mm; Height: 0.5mm; Depth: 1.25mm; Lead Pitch: 0.4mm; REACH SVHC: Unknown; Lead Free: Lead Free; Military Standard: Not; RoHS Compliant: Yes; ComponentLink1URL: https://datasheet.ciiva.com/2457/pyu-r-int-thick-7-2457056.pdf?src-supplier=Digi-Key; ComponentLink1Description: https://datasheet.ciiva.com/2457/pyu-r-int-thick-7-2457056.pdf?src-supplier=Digi-Key; ComponentLink2URL: https://datasheet.ciiva.com/2457/pyu-r-int-thick-7-2457057.pdf?src-supplier=Digi-Key; ComponentLink2Description: https://datasheet.ciiva.com/2457/pyu-r-int-thick-7-2457057.pdf?src-supplier=Digi-Key; ComponentLink3URL: https://datasheet.ciiva.com/2457/pyu-r-int-thick-7-2457058.pdf?src-supplier=Digi-Key; ComponentLink3Description: https://datasheet.ciiva.com/2457/pyu-r-int-thick-7-2457058.pdf?src-supplier=Digi-Key; ComponentLink4URL: https://datasheet.ciiva.com/7941/444164-7941797.pdf?src-supplier=Element14; ComponentLink4Description: https://datasheet.ciiva.com/7941/444164-7941797.pdf?src-supplier=Element14; ComponentLink5URL: https://datasheet.ciiva.com/7941/444164-7941798.pdf?src-supplier=Element14; ComponentLink5Description: https://datasheet.ciiva.com/7941/444164-7941798.pdf?src-supplier=Element14; ComponentLink6URL: https://datasheet.ciiva.com/46447/444164-46447580.pdf?src-supplier=Element14; ComponentLink6Description: https://datasheet.ciiva.com/46447/444164-46447580.pdf?src-supplier=Element14; ComponentLink7URL: https://datasheet.ciiva.com/16745/rc0805-16745229.pdf?src-supplier=Future+Electronics; ComponentLink7Description: https://datasheet.ciiva.com/16745/rc0805-16745229.pdf?src-supplier=Future+Electronics; Supplier Part Number 1: 603-RC0805FR-07470RL
footprint R0805
pins: 1, 2

## RC0805JR-070RL
designator R?, comment 0R
Surface Mount Thick Film Resistor, RC Series, 125 mW, - 5%, 150 V, 0805 [2012 Metric]; Manufacturer: Yageo; Manufacturer Part Number: RC0805JR-070RL; Resistance: 0mR; Power Rating: 125mW; Voltage Rating: 150V; Temperature Coefficient: 200ppm/°C; Supplier 1: Mouser; RoHS: Yes; Category: Chip SMD Resistors; Stock 1: 143716; Pricing 1: 1=0.10000, 10=0.00700, 50=0.00700, 100=0.00600, 1000=0.00600, 10000=0.00400 (USD); Case/Package: 0805; Number of Pins: 2; Contact Plating: Tin,Matte; Case Code (Imperial): 0805; Case Code (Metric): 2012; Size Code: 0805; Min Operating Temperature: -55°C; Max Operating Temperature: 155°C; Resistor Type: Thick Film; Tolerance: 5%; Packaging: Tape and Reel; Voltage Rating (DC): 150V; Termination: SMD/SMT; Features: Moisture Resistant; Series: RC; Max Power Dissipation: 125mW; Number of Terminations: 2; Construction: Rectangular; Technology: THICK FILM; Resistance Tolerance: 5%; Length: 2mm; Width: 1.25mm; Height: 0.5mm; Depth: 1.25mm; Radiation Hardening: No; RoHS Compliant: Yes; REACH SVHC: Unknown; Military Standard: Not; Lead Free: Lead Free; ComponentLink1URL: https://datasheet.ciiva.com/7941/1738694-7941861.pdf?src-supplier=Element14; ComponentLink1Description: https://datasheet.ciiva.com/7941/1738694-7941861.pdf?src-supplier=Element14; ComponentLink2URL: https://datasheet.ciiva.com/11819/0900766b8106beab-11819430.pdf?src-supplier=RSComponents; ComponentLink2Description: https://datasheet.ciiva.com/11819/0900766b8106beab-11819430.pdf?src-supplier=RSComponents; ComponentLink3URL: https://datasheet.ciiva.com/7941/1738694-7941862.pdf?src-supplier=Element14; ComponentLink3Description: https://datasheet.ciiva.com/7941/1738694-7941862.pdf?src-supplier=Element14; ComponentLink4URL: https://datasheet.ciiva.com/7941/1738694-7941863.pdf?src-supplier=Element14; ComponentLink4Description: https://datasheet.ciiva.com/7941/1738694-7941863.pdf?src-supplier=Element14; ComponentLink5URL: https://datasheet.ciiva.com/15190/getdatasheetpartid-330685-15190028.pdf?src-supplier=Verical; ComponentLink5Description: https://datasheet.ciiva.com/15190/getdatasheetpartid-330685-15190028.pdf?src-supplier=Verical; Supplier Part Number 1: 603-RC0805JR-070RL
footprint R0805
pins: 1, 2

## RE0805FRE0727KL
designator R?, comment 27k
Chip Resistor Precision Grade Thick Film 0805 27kOhm 1% Paper T/R; Manufacturer: Yageo; Manufacturer Part Number: RE0805FRE0727KL; Resistance: 27kR; Max Power Dissipation: 125mW; Temperature Coefficient: 50ppm/°C; Supplier 1: Mouser; RoHS: Yes; Category: Chip SMD Resistors; Stock 1: 11410; Pricing 1: 1=0.14000, 10=0.03300, 50=0.03300, 100=0.01200, 1000=0.00900, 10000=0.00500 (USD); Case/Package: 0805; Min Operating Temperature: -55°C; Max Operating Temperature: 155°C; Packaging: Tape and Reel; Resistor Type: Thick Film; Number of Terminations: 2; Tolerance: 1%; Features: Moisture Resistant; Length: 0.079inch; Width: 0.049inch; Height: 0.024inch; RoHS Compliant: Yes; ComponentLink1URL: http://www.yageo.com/NewPortal/yageodocoutput?fileName=/pdf/R-Chip/PYu-RE_105_RoHS_L_4.pdf&src-supplier=Digi-Key; ComponentLink1Description: http://www.yageo.com/NewPortal/yageodocoutput?fileName=/pdf/R-Chip/PYu-RE_105_RoHS_L_4.pdf&src-supplier=Digi-Key; Supplier Part Number 1: 603-RE0805FRE0727KL
footprint R0805
pins: 1, 2

## Resistor
designator R?, comment Value
Resistor
pins: 1, 2

## SSW-106-02-T-D-RA
designator J?
Connector; Manufacturer: SAMTEC; Datasheet Link: https://componentsearchengine.com//SSW-106-02-T-D-RA.pdf; Mouser2 Part Number: 200-SSW10602TDRA; Mouser2 Price/Stock: https://www.mouser.com/Search/Refine.aspx?Keyword=200-SSW10602TDRA; Manufacturer Part Number: SSW-106-02-T-D-RA; Supplier 1: Mouser; Stock 1: *; Supplier Part Number 1: 200-SSW10602TDRA
footprint SSW-106-XX-YYY-D-RA
pins: 1, 2, 3, 4, 5, 6, 7, 8, 9, 10, 11, 12

## T491A475K016AT
designator C?, comment 4.7u / 16V
Tantalum capacitor 4.7 uF 16 VDC, T491A475K016AT, KEMET; Capacitance: 4.7uF; Tolerance: 10%; ESR (Equivalent Series Resistance): 4R; Polarity: Polar; Dissipation Factor: 6%; Life (Hours): 2000Hour; Ripple Current: 137mA; Leakage Current: 800nA; Supplier 1: Mouser; Manufacturer: KEMET; Manufacturer Part Number: T491A475K016AT; RoHS: Yes; Category: Tantalum Capacitors; Stock 1: 9766; Pricing 1: 1=0.43000, 10=0.24500, 50=0.24500, 100=0.14900, 1000=0.12200, 10000=0.10600 (USD); Mount: Surface Mount,PCB; Case/Package: 1206; Number of Pins: 2; Case Code (Metric): 3216; Case Code (Imperial): 1206; Dielectric Material: Tantalum; Min Operating Temperature: -55°C; Max Operating Temperature: 125°C; Packaging: Tape and Reel; Construction: Flat; Voltage Rating: 16V; Features: General Purpose; Package Quantity: 1; Voltage Rating (DC): 16V; Termination: SMD/SMT; Voltage: 16V; Series: T491; Length: 3.2mm; Width: 1.6mm; Height: 1.6mm; Depth: 1.6mm; Height - Seated (Max): 0.071inch; Radiation Hardening: No; RoHS Compliant: Yes; Lead Free: Lead Free; REACH SVHC: No SVHC; ComponentLink1URL: https://datasheet.ciiva.com/34302/1573425-34302513.pdf?src-supplier=Jameco; ComponentLink1Description: https://datasheet.ciiva.com/34302/1573425-34302513.pdf?src-supplier=Jameco; ComponentLink2URL: https://datasheet.ciiva.com/11793/0900766b80718482-11793043.pdf?src-supplier=RSComponents; ComponentLink2Description: https://datasheet.ciiva.com/11793/0900766b80718482-11793043.pdf?src-supplier=RSComponents; ComponentLink3URL: https://datasheet.ciiva.com/20171/458253-da-en-01-20171911.pdf?src-supplier=Rapid+Electronics; ComponentLink3Description: https://datasheet.ciiva.com/20171/458253-da-en-01-20171911.pdf?src-supplier=Rapid+Electronics; ComponentLink4URL: https://datasheet.ciiva.com/257/kem-t2005-t491-257536.pdf?src-supplier=Digi-Key; ComponentLink4Description: https://datasheet.ciiva.com/257/kem-t2005-t491-257536.pdf?src-supplier=Digi-Key; ComponentLink5URL: https://datasheet.ciiva.com/257/kem-t2005-t491-257537.pdf?src-supplier=Digi-Key; ComponentLink5Description: https://datasheet.ciiva.com/257/kem-t2005-t491-257537.pdf?src-supplier=Digi-Key; ComponentLink6URL: https://datasheet.ciiva.com/257/kem-t2005-t491-257538.pdf?src-supplier=Digi-Key; ComponentLink6Description: https://datasheet.ciiva.com/257/kem-t2005-t491-257538.pdf?src-supplier=Digi-Key; ComponentLink7URL: https://datasheet.ciiva.com/7696/1854511-7696309.pdf?src-supplier=Element14; ComponentLink7Description: https://datasheet.ciiva.com/7696/1854511-7696309.pdf?src-supplier=Element14; ComponentLink8URL: https://datasheet.ciiva.com/14605/70095774-14605189.pdf?src-supplier=Allied+Electronics; ComponentLink8Description: https://datasheet.ciiva.com/14605/70095774-14605189.pdf?src-supplier=Allied+Electronics; ComponentLink9URL: https://datasheet.ciiva.com/7696/1854511-7696310.pdf?src-supplier=Element14; ComponentLink9Description: https://datasheet.ciiva.com/7696/1854511-7696310.pdf?src-supplier=Element14; ComponentLink10URL: https://datasheet.ciiva.com/7696/1854511-7696311.pdf?src-supplier=Element14; ComponentLink10Description: https://datasheet.ciiva.com/7696/1854511-7696311.pdf?src-supplier=Element14; ComponentLink11URL: https://datasheet.ciiva.com/7696/1854511-7696312.pdf?src-supplier=Element14; ComponentLink11Description: https://datasheet.ciiva.com/7696/1854511-7696312.pdf?src-supplier=Element14; ComponentLink12URL: https://datasheet.ciiva.com/12883/kem-t2005-t491-12883130.pdf?src-supplier=Mouser; ComponentLink12Description: https://datasheet.ciiva.com/12883/kem-t2005-t491-12883130.pdf?src-supplier=Mouser; ComponentLink13URL: https://datasheet.ciiva.com/14603/70095774-14603739.pdf?src-supplier=Allied+Electronics; ComponentLink13Description: https://datasheet.ciiva.com/14603/70095774-14603739.pdf?src-supplier=Allied+Electronics; ComponentLink14URL: https://datasheet.ciiva.com/5934/kem-t2005-t491-5934799.pdf?src-supplier=Farnell; ComponentLink14Description: https://datasheet.ciiva.com/5934/kem-t2005-t491-5934799.pdf?src-supplier=Farnell; ComponentLink15URL: https://datasheet.ciiva.com/29244/458253-da-01-en-tantal-kondensator-t491a475k016at-29244572.pdf?src-supplier=Conrad; ComponentLink15Description: https://datasheet.ciiva.com/29244/458253-da-01-en-tantal-kondensator-t491a475k016at-29244572.pdf?src-supplier=Conrad; Supplier Part Number 1: 80-T491A475K016
footprint C_TAN_A
pins: 1, 2

## TitleBlock
designator *  (value not drawn)
Sheet Title: -; Size: -
text: Title; Sheet Title; Designed by; Size:; Document Number:; Revision:; Date:; Sheet; of

## TPD3E001DRLRG4
designator *  Supplier Part Number 1: 595-TPD3E001DRLRG4
ESD Suppressor Diode Arrays 15KV 5-Pin SOT T/R; Manufacturer: Texas Instruments; Manufacturer Part Number: TPD3E001DRLRG4; Direction: Unidirectional; Capacitance: 1.5pF; Clamping Voltage: 105.5V; Polarity: Bidirectional; Leakage Current: 1nA; Min Breakdown Voltage: 11V; Operating Supply Voltage: 5.5V; Number of Channels: 3; Interface: USB; Supplier 1: Mouser; RoHS: Yes; Category: Interface ICs; Stock 1: 3740; Pricing 1: 1=0.56000, 10=0.48600, 50=0.48600, 100=0.33700, 1000=0.20100, 10000=0.16500 (USD); Case/Package: SOT-553; Number of Pins: 5; Weight: 9.9E-05oz; Min Operating Temperature: -40°C; Max Operating Temperature: 85°C; Packaging: Tape and Reel; Package Quantity: 4000; Breakdown Voltage: 11V; Series: TPD3E001; Length: 1.6mm; Depth: 1.3mm; Radiation Hardening: No; Lead Free: Lead Free; RoHS Compliant: Yes; ComponentLink1URL: https://datasheet.ciiva.com/15186/getdatasheetpartid-491430-15186604.pdf?src-supplier=Verical; ComponentLink1Description: https://datasheet.ciiva.com/15186/getdatasheetpartid-491430-15186604.pdf?src-supplier=Verical; ComponentLink2URL: https://datasheet.ciiva.com/353/tpd3e001-353166.pdf?src-supplier=Digi-Key; ComponentLink2Description: https://datasheet.ciiva.com/353/tpd3e001-353166.pdf?src-supplier=Digi-Key; ComponentLink3URL: https://datasheet.ciiva.com/25956/slls683d-25956847.pdf?src-supplier=Avnet+Europe; ComponentLink3Description: https://datasheet.ciiva.com/25956/slls683d-25956847.pdf?src-supplier=Avnet+Europe
pins: 1 IO1, 2 IO2, 3 GND, 4 IO3, 5 VCC

## TPS562202SDRLR
designator U?
Manufacturer: Texas Instruments; Supplier 1: Mouser; Manufacturer Part Number: TPS562202SDRLR; RoHS: Yes; Stock 1: 1059; Pricing 1: 1=0.62000, 10=0.54600, 50=0.54600, 100=0.41900, 1000=0.26500, 10000=0.21800 (USD); Supplier Part Number 1: 595-TPS562202SDRLR
footprint SOT563-6
pins: 1 VIN, 2 SW, 3 GND, 4 BST, 5 EN, 6 FB